# Altium footprint library NHD-C12832A1Z BLUE.PCBLIB: 1 footprints
Each footprint in its own frame and in the unit in brackets; x right, y up, seen from the top. Pads: shape width x height; smd on the part's side, far side on the other; paste and mask are expansions set on the pad; w line width, h text height; cw(c..) or ccw(c..) is an arc to the next point about the centre after c.
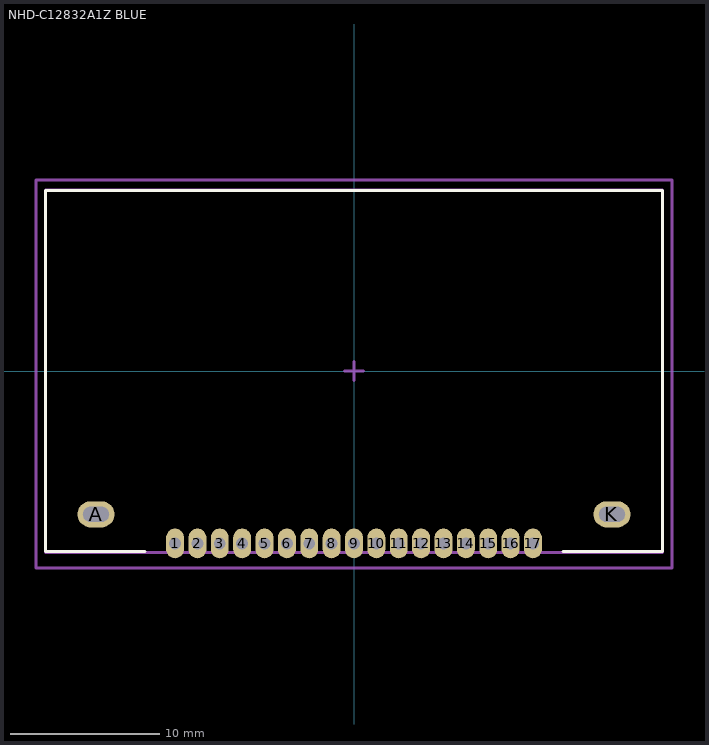
[diagram p0: the footprint, top view; thin cyan lines are the x and y axes]

## NHD-C12832A1Z BLUE [mm]
height 6.4
pads (19):
  oval 1.2x2 hole 0.8: 1(-12,-11.55) 2(-10.5,-11.55) 3(-9,-11.55) 4(-7.5,-11.55) 5(-6,-11.55) 6(-4.5,-11.55) 7(-3,-11.55) 8(-1.5,-11.55) 9(0,-11.55) 10(1.5,-11.55) 11(3,-11.55) 12(4.5,-11.55) 13(6,-11.55) 14(7.5,-11.55) 15(9,-11.55) 16(10.5,-11.55) 17(12,-11.55)
  oval 2.5x1.75 hole 1 slot 1.75 at 0 deg: A(-17.3,-9.6) K(17.3,-9.6)
Top Overlay:
  lines w0.2: -14,-12.1 -20.7,-12.1 -20.7,12.1 0,12.1 20.7,12.1 20.7,-12.1 14,-12.1
Mechanical 13:
  lines w0.2: -20.7,-12.15 -20.7,12.15 20.7,12.15 20.7,-12.15 -20.7,-12.15
Mechanical 15:
  lines w0.2: -0.635,0 0.635,0 ; 0,-0.635 0,0.635 ; -21.336,-13.208 21.336,-13.208 21.336,12.827 -21.336,12.827 -21.336,-13.208
3D body "NHD-C12832A1Z-FSB.STEP": height 4.9, standoff -2.1, extent -20.7,-12.15 20.7,12.15